# Altium integrated library Texas Instruments Power Management PWM Controller.IntLib: 1227 symbols (part 33 of 49)
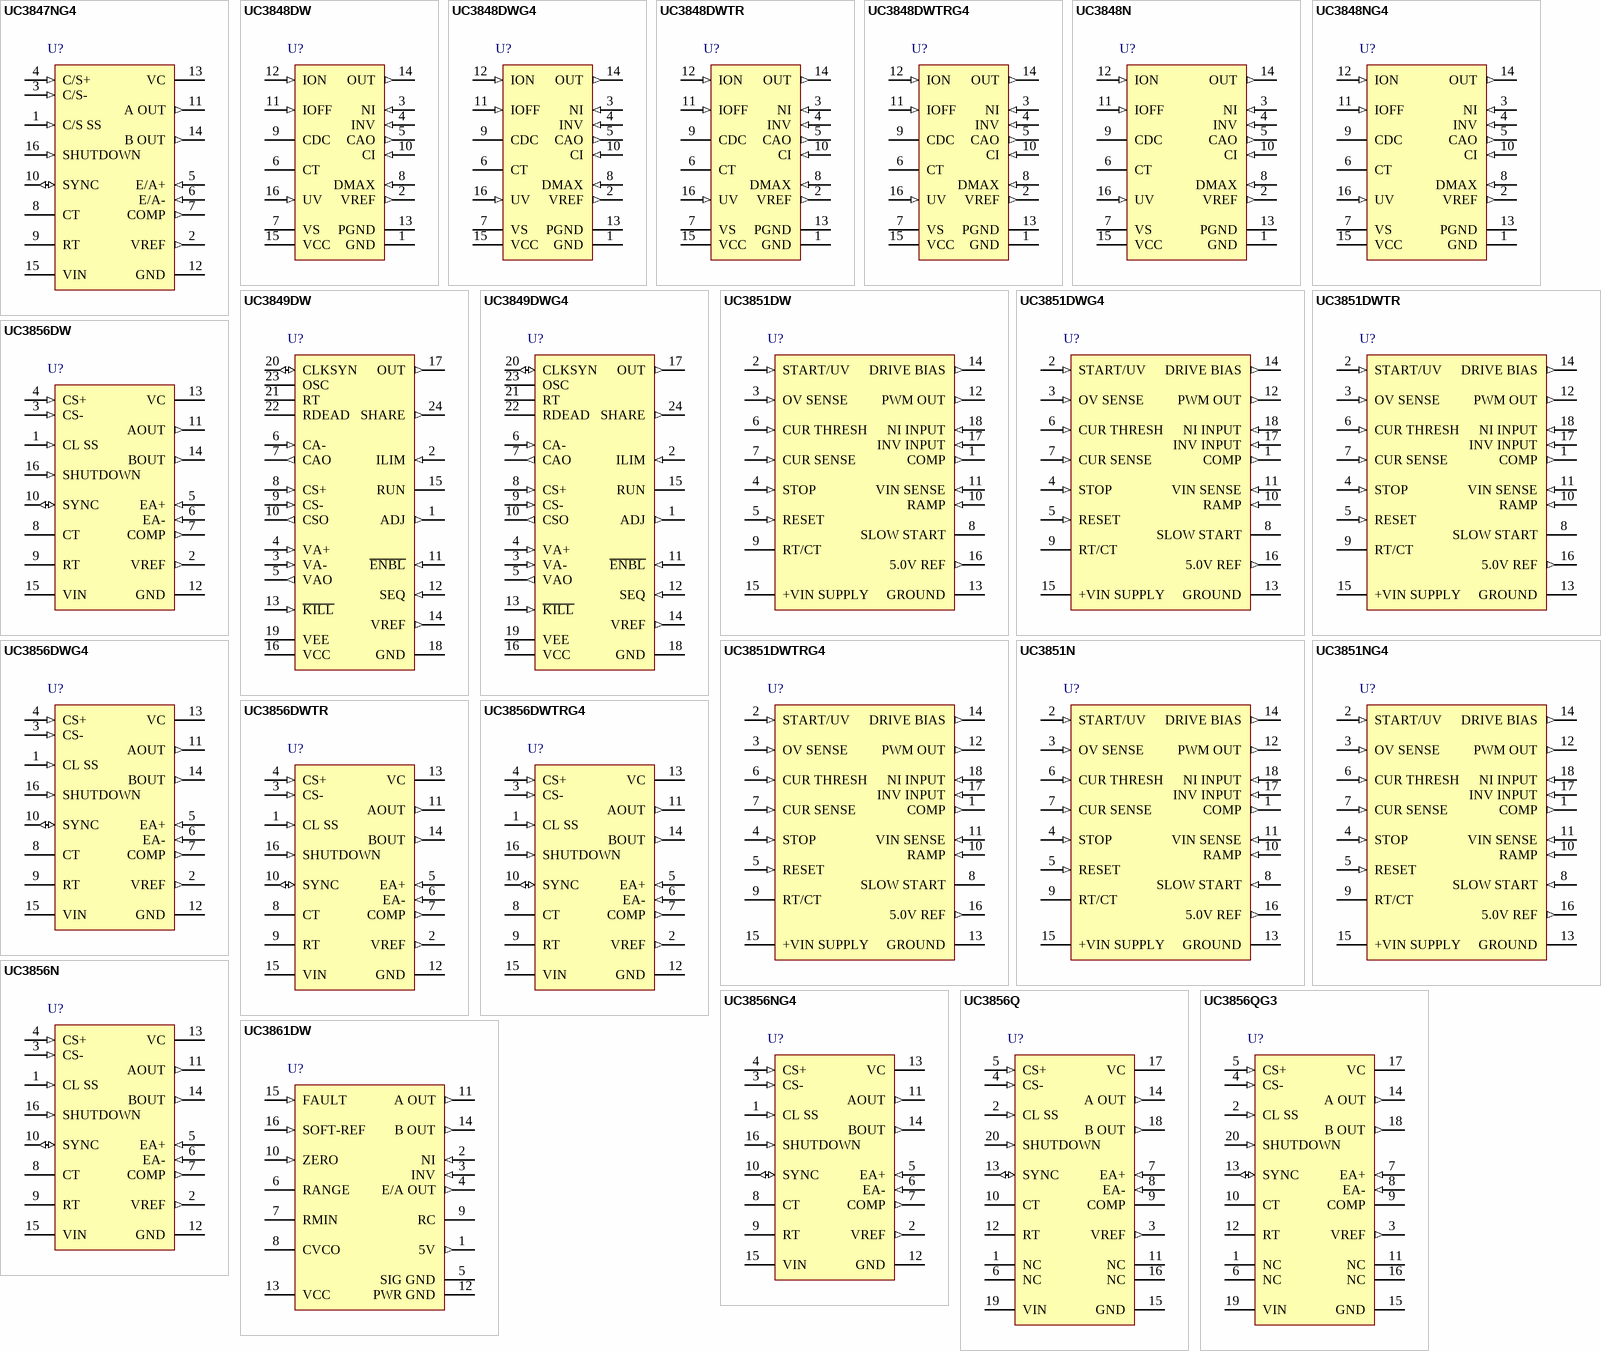
[diagram p75: symbols UC3847NG4 to UC3861DW]

## UC3861DW
designator U?
Resonant-Mode Power Supply Controller, 50 % Duty Cycle, 0 to +70 degC, 16-pin SOIC (DW), Green (RoHS & no Sb/Br); PartNumber: UC3861DW; Manufacturer: Texas Instruments; Control Method: Voltage; Duty Cycle(Max)(%): 50; Frequency(Max)(kHz): 450; Rating: Catalog; Regulated Outputs(#): 2; SubFamily: PWM Controller; Topology: Full-Bridge, Half-Bridge, Push-Pull; UVLO Thresholds On/Off(V): 16.5/10.5; DatasheetVersion: SLUS289B; PackageVersion: revG, Jan-2011; PackageReference: DW16; PackageDescription: 16-Pin Small Outline Integrated Circuit, 10.3 x 7.5 mm, Pitch 1.27 mm Pitch; Supplier 1: Digi-Key; Supplier Part Number 1: 296-14332-5-ND; Supplier 2: Newark; Supplier Part Number 2: 77C3387; Supplier 3: Mouser; Supplier Part Number 3: 595-UC3861DW; Eco-Plan: Green (RoHS & no Sb/Br); Mounting Technology: Surface Mount; Code_JEDEC: MS-013-AA; ComponentLink1Description: Datasheet; ComponentLink1URL: http://www.ti.com/general/docs/lit/getliterature.tsp?genericPartNumber=UC3861&fileType=pdf
footprint DW16_N (SOIC, 16-Leads, Body 10.3x7.5mm, Pitch 1.27mm, IPC Medium Density)
footprint DW16_L (SOIC, 16-Leads, Body 10.3x7.5mm, Pitch 1.27mm, IPC High Density)
footprint DW16_M (SOIC, 16-Leads, Body 10.3x7.5mm, Pitch 1.27mm, IPC Low Density)
pins: 1 5V (out), 2 NI (in), 3 INV (in), 4 E/A OUT (out), 5 SIG GND (power), 6 RANGE, 7 RMIN, 8 CVCO, 9 RC, 10 ZERO (in), 11 A OUT (out), 12 PWR GND (power), 13 VCC (power), 14 B OUT (out), 15 FAULT (in), 16 SOFT-REF (in)

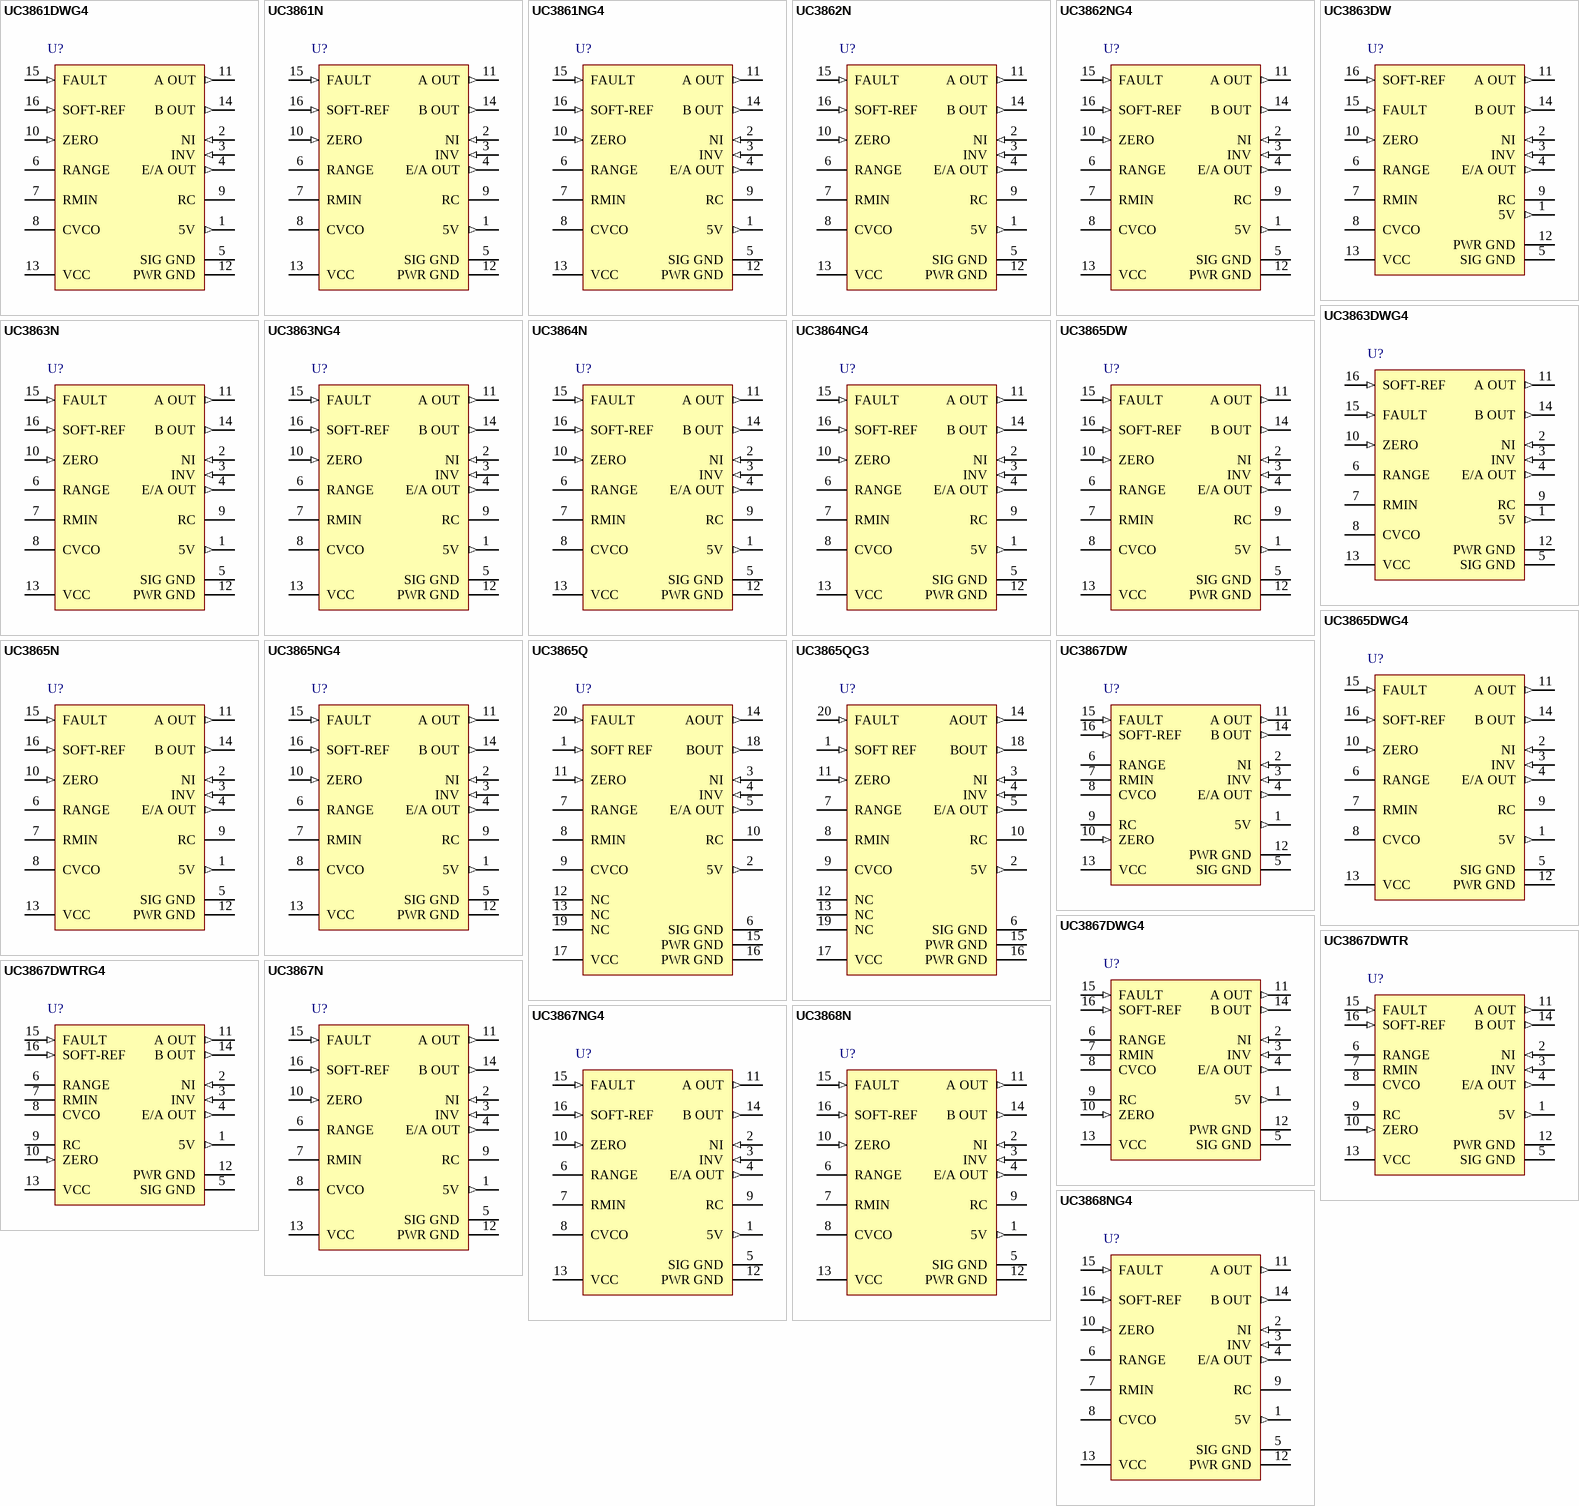
[diagram p35: symbols UC3861DWG4 to UC3868NG4]

## UC3861DWG4
designator U?
Resonant-Mode Power Supply Controller, 50 % Duty Cycle, 0 to +70 degC, 16-pin SOIC (DW), Green (RoHS & no Sb/Br); PartNumber: UC3861DWG4; Manufacturer: Texas Instruments; Control Method: Voltage; Duty Cycle(Max)(%): 50; Frequency(Max)(kHz): 450; Rating: Catalog; Regulated Outputs(#): 2; SubFamily: PWM Controller; Topology: Full-Bridge, Half-Bridge, Push-Pull; UVLO Thresholds On/Off(V): 16.5/10.5; DatasheetVersion: SLUS289B; PackageVersion: revG, Jan-2011; PackageReference: DW16; PackageDescription: 16-Pin Small Outline Integrated Circuit, 10.3 x 7.5 mm, Pitch 1.27 mm Pitch; Supplier 1: Digi-Key; Supplier Part Number 1: UC3861DWG4-ND; Supplier 2: Newark; Supplier Part Number 2: 28M7874; Supplier 3: Mouser; Supplier Part Number 3: 595-UC3861DWG4; Eco-Plan: Green (RoHS & no Sb/Br); Mounting Technology: Surface Mount; Code_JEDEC: MS-013-AA; ComponentLink1Description: Datasheet; ComponentLink1URL: http://www.ti.com/general/docs/lit/getliterature.tsp?genericPartNumber=UC3861&fileType=pdf
footprint DW16_N (SOIC, 16-Leads, Body 10.3x7.5mm, Pitch 1.27mm, IPC Medium Density)
footprint DW16_L (SOIC, 16-Leads, Body 10.3x7.5mm, Pitch 1.27mm, IPC High Density)
footprint DW16_M (SOIC, 16-Leads, Body 10.3x7.5mm, Pitch 1.27mm, IPC Low Density)
pins: 1 5V (out), 2 NI (in), 3 INV (in), 4 E/A OUT (out), 5 SIG GND (power), 6 RANGE, 7 RMIN, 8 CVCO, 9 RC, 10 ZERO (in), 11 A OUT (out), 12 PWR GND (power), 13 VCC (power), 14 B OUT (out), 15 FAULT (in), 16 SOFT-REF (in)

## UC3861N
designator U?
Resonant-Mode Power Supply Controller, 50 % Duty Cycle, 0 to +70 degC, 16-pin PDIP (N), Green (RoHS & no Sb/Br); PartNumber: UC3861N; Manufacturer: Texas Instruments; Control Method: Voltage; Duty Cycle(Max)(%): 50; Frequency(Max)(kHz): 450; Rating: Catalog; Regulated Outputs(#): 2; SubFamily: PWM Controller; Topology: Full-Bridge, Half-Bridge, Push-Pull; UVLO Thresholds On/Off(V): 16.5/10.5; DatasheetVersion: SLUS289B; PackageVersion: revE, Dec-2002; PackageReference: N16; PackageDescription: 16-Pin Plastic Dual-In-Line Package, Row Spacing 7.62 mm, Pitch 2.54 mm; Supplier 1: Digi-Key; Supplier Part Number 1: 296-11318-5-ND; Supplier 2: Newark; Supplier Part Number 2: 77C3389; Supplier 3: Mouser; Supplier Part Number 3: 595-UC3861N; Eco-Plan: Green (RoHS & no Sb/Br); Mounting Technology: Through Hole; Code_JEDEC: MS-001*; ComponentLink1Description: Datasheet; ComponentLink1URL: http://www.ti.com/general/docs/lit/getliterature.tsp?genericPartNumber=UC3861&fileType=pdf
footprint N16 (DIP, 16-Leads, Row Spacing 7.62mm, Pitch 2.54mm, Body 19.3x6.4mm)
pins: 1 5V (out), 2 NI (in), 3 INV (in), 4 E/A OUT (out), 5 SIG GND (power), 6 RANGE, 7 RMIN, 8 CVCO, 9 RC, 10 ZERO (in), 11 A OUT (out), 12 PWR GND (power), 13 VCC (power), 14 B OUT (out), 15 FAULT (in), 16 SOFT-REF (in)

## UC3861NG4
designator U?
Resonant-Mode Power Supply Controller, 50 % Duty Cycle, 0 to +70 degC, 16-pin PDIP (N), Green (RoHS & no Sb/Br); PartNumber: UC3861NG4; Manufacturer: Texas Instruments; Control Method: Voltage; Duty Cycle(Max)(%): 50; Frequency(Max)(kHz): 450; Rating: Catalog; Regulated Outputs(#): 2; SubFamily: PWM Controller; Topology: Full-Bridge, Half-Bridge, Push-Pull; UVLO Thresholds On/Off(V): 16.5/10.5; DatasheetVersion: SLUS289B; PackageVersion: revE, Dec-2002; PackageReference: N16; PackageDescription: 16-Pin Plastic Dual-In-Line Package, Row Spacing 7.62 mm, Pitch 2.54 mm; Supplier 1: Digi-Key; Supplier Part Number 1: UC3861NG4-ND; Supplier 2: Newark; Supplier Part Number 2: 54K2345; Supplier 3: Mouser; Supplier Part Number 3: 595-UC3861NG4; Eco-Plan: Green (RoHS & no Sb/Br); Mounting Technology: Through Hole; Code_JEDEC: MS-001*; ComponentLink1Description: Datasheet; ComponentLink1URL: http://www.ti.com/general/docs/lit/getliterature.tsp?genericPartNumber=UC3861&fileType=pdf
footprint N16 (DIP, 16-Leads, Row Spacing 7.62mm, Pitch 2.54mm, Body 19.3x6.4mm)
pins: 1 5V (out), 2 NI (in), 3 INV (in), 4 E/A OUT (out), 5 SIG GND (power), 6 RANGE, 7 RMIN, 8 CVCO, 9 RC, 10 ZERO (in), 11 A OUT (out), 12 PWR GND (power), 13 VCC (power), 14 B OUT (out), 15 FAULT (in), 16 SOFT-REF (in)

## UC3862N
designator U?
Resonant-Mode Power Supply Controller, 100 % Duty Cycle, 0 to +70 degC, 16-pin PDIP (N), Green (RoHS & no Sb/Br); PartNumber: UC3862N; Manufacturer: Texas Instruments; Control Method: Voltage; Duty Cycle(Max)(%): 100; Frequency(Max)(kHz): 450; Rating: Catalog; Regulated Outputs(#): 1; SubFamily: PWM Controller; Topology: Boost, Flyback, Forward; UVLO Thresholds On/Off(V): 16.5/10.5; DatasheetVersion: SLUS289B; PackageVersion: revE, Dec-2002; PackageReference: N16; PackageDescription: 16-Pin Plastic Dual-In-Line Package, Row Spacing 7.62 mm, Pitch 2.54 mm; Supplier 1: Digi-Key; Supplier Part Number 1: 296-11319-5-ND; Supplier 2: Newark; Supplier Part Number 2: 77C3392; Supplier 3: Mouser; Supplier Part Number 3: 595-UC3862N; Eco-Plan: Green (RoHS & no Sb/Br); Mounting Technology: Through Hole; Code_JEDEC: MS-001*; ComponentLink1Description: Datasheet; ComponentLink1URL: http://www.ti.com/general/docs/lit/getliterature.tsp?genericPartNumber=UC3862&fileType=pdf
footprint N16 (DIP, 16-Leads, Row Spacing 7.62mm, Pitch 2.54mm, Body 19.3x6.4mm)
pins: 1 5V (out), 2 NI (in), 3 INV (in), 4 E/A OUT (out), 5 SIG GND (power), 6 RANGE, 7 RMIN, 8 CVCO, 9 RC, 10 ZERO (in), 11 A OUT (out), 12 PWR GND (power), 13 VCC (power), 14 B OUT (out), 15 FAULT (in), 16 SOFT-REF (in)

## UC3862NG4
designator U?
Resonant-Mode Power Supply Controller, 100 % Duty Cycle, 0 to +70 degC, 16-pin PDIP (N), Green (RoHS & no Sb/Br); PartNumber: UC3862NG4; Manufacturer: Texas Instruments; Control Method: Voltage; Duty Cycle(Max)(%): 100; Frequency(Max)(kHz): 450; Rating: Catalog; Regulated Outputs(#): 1; SubFamily: PWM Controller; Topology: Boost, Flyback, Forward; UVLO Thresholds On/Off(V): 16.5/10.5; DatasheetVersion: SLUS289B; PackageVersion: revE, Dec-2002; PackageReference: N16; PackageDescription: 16-Pin Plastic Dual-In-Line Package, Row Spacing 7.62 mm, Pitch 2.54 mm; Supplier 1: Digi-Key; Supplier Part Number 1: UC3862NG4-ND; Supplier 2: Newark; Supplier Part Number 2: 54K2346; Supplier 3: Mouser; Supplier Part Number 3: 595-UC3862NG4; Eco-Plan: Green (RoHS & no Sb/Br); Mounting Technology: Through Hole; Code_JEDEC: MS-001*; ComponentLink1Description: Datasheet; ComponentLink1URL: http://www.ti.com/general/docs/lit/getliterature.tsp?genericPartNumber=UC3862&fileType=pdf
footprint N16 (DIP, 16-Leads, Row Spacing 7.62mm, Pitch 2.54mm, Body 19.3x6.4mm)
pins: 1 5V (out), 2 NI (in), 3 INV (in), 4 E/A OUT (out), 5 SIG GND (power), 6 RANGE, 7 RMIN, 8 CVCO, 9 RC, 10 ZERO (in), 11 A OUT (out), 12 PWR GND (power), 13 VCC (power), 14 B OUT (out), 15 FAULT (in), 16 SOFT-REF (in)

## UC3863DW
designator U?
Resonant-Mode Power Supply Controller with Voltage Control, 50 % Duty Cycle, 0 to +70 degC, 16-pin SOIC (DW), Green (RoHS & no Sb/Br); PartNumber: UC3863DW; Manufacturer: Texas Instruments; Duty Cycle(Max)(%): 50; Frequency(Max)(kHz): 450; Rating: Catalog; Regulated Outputs(#): 2; SubFamily: PWM Controller; Topology: Full-Bridge, Half-Bridge, Push-Pull; UVLO Thresholds On/Off(V): 8/7; DatasheetVersion: SLUS289B; PackageVersion: revG, Jan-2011; PackageReference: DW16; PackageDescription: 16-Pin Small Outline Integrated Circuit, 10.3 x 7.5 mm, Pitch 1.27 mm Pitch; Supplier 1: Digi-Key; Supplier Part Number 1: 296-34741-5-ND; Supplier 2: Newark; Supplier Part Number 2: 77C3393; Supplier 3: Mouser; Supplier Part Number 3: 595-UC3863DW; Control Method: Voltage; Eco-Plan: Green (RoHS & no Sb/Br); Mounting Technology: Surface Mount; Code_JEDEC: MS-013-AA; ComponentLink1Description: Datasheet; ComponentLink1URL: http://www.ti.com/general/docs/lit/getliterature.tsp?genericPartNumber=UC3863&fileType=pdf
footprint DW16_N (SOIC, 16-Leads, Body 10.3x7.5mm, Pitch 1.27mm, IPC Medium Density)
footprint DW16_L (SOIC, 16-Leads, Body 10.3x7.5mm, Pitch 1.27mm, IPC High Density)
footprint DW16_M (SOIC, 16-Leads, Body 10.3x7.5mm, Pitch 1.27mm, IPC Low Density)
pins: 1 5V (out), 2 NI (in), 3 INV (in), 4 E/A OUT (out), 5 SIG GND (power), 6 RANGE, 7 RMIN, 8 CVCO, 9 RC, 10 ZERO (in), 11 A OUT (out), 12 PWR GND (power), 13 VCC (power), 14 B OUT (out), 15 FAULT (in), 16 SOFT-REF (in)

## UC3863DWG4
designator U?
Resonant-Mode Power Supply Controller with Voltage Control, 50 % Duty Cycle, 0 to +70 degC, 16-pin SOIC (DW), Green (RoHS & no Sb/Br); PartNumber: UC3863DWG4; Manufacturer: Texas Instruments; Duty Cycle(Max)(%): 50; Frequency(Max)(kHz): 450; Rating: Catalog; Regulated Outputs(#): 2; SubFamily: PWM Controller; Topology: Full-Bridge, Half-Bridge, Push-Pull; UVLO Thresholds On/Off(V): 8/7; DatasheetVersion: SLUS289B; PackageVersion: revG, Jan-2011; PackageReference: DW16; PackageDescription: 16-Pin Small Outline Integrated Circuit, 10.3 x 7.5 mm, Pitch 1.27 mm Pitch; Supplier 1: Digi-Key; Supplier Part Number 1: UC3863DWG4-ND; Supplier 2: Newark; Supplier Part Number 2: 70K6028; Supplier 3: Mouser; Supplier Part Number 3: 595-UC3863DWG4; Control Method: Voltage; Eco-Plan: Green (RoHS & no Sb/Br); Mounting Technology: Surface Mount; Code_JEDEC: MS-013-AA; ComponentLink1Description: Datasheet; ComponentLink1URL: http://www.ti.com/general/docs/lit/getliterature.tsp?genericPartNumber=UC3863&fileType=pdf
footprint DW16_N (SOIC, 16-Leads, Body 10.3x7.5mm, Pitch 1.27mm, IPC Medium Density)
footprint DW16_L (SOIC, 16-Leads, Body 10.3x7.5mm, Pitch 1.27mm, IPC High Density)
footprint DW16_M (SOIC, 16-Leads, Body 10.3x7.5mm, Pitch 1.27mm, IPC Low Density)
pins: 1 5V (out), 2 NI (in), 3 INV (in), 4 E/A OUT (out), 5 SIG GND (power), 6 RANGE, 7 RMIN, 8 CVCO, 9 RC, 10 ZERO (in), 11 A OUT (out), 12 PWR GND (power), 13 VCC (power), 14 B OUT (out), 15 FAULT (in), 16 SOFT-REF (in)

## UC3863N
designator U?
Resonant-Mode Power Supply Controller with Voltage Control, 50 % Duty Cycle, 0 to +70 degC, 16-pin PDIP (N), Green (RoHS & no Sb/Br); PartNumber: UC3863N; Manufacturer: Texas Instruments; Duty Cycle(Max)(%): 50; Frequency(Max)(kHz): 450; Rating: Catalog; Regulated Outputs(#): 2; SubFamily: PWM Controller; Topology: Full-Bridge, Half-Bridge, Push-Pull; UVLO Thresholds On/Off(V): 8/7; DatasheetVersion: SLUS289B; PackageVersion: revE, Dec-2002; PackageReference: N16; PackageDescription: 16-Pin Plastic Dual-In-Line Package, Row Spacing 7.62 mm, Pitch 2.54 mm; Supplier 1: Digi-Key; Supplier Part Number 1: 296-11320-5-ND; Supplier 2: Newark; Supplier Part Number 2: 77C3395; Supplier 3: Mouser; Supplier Part Number 3: 595-UC3863N; Control Method: Voltage; Eco-Plan: Green (RoHS & no Sb/Br); Mounting Technology: Through Hole; Code_JEDEC: MS-001*; ComponentLink1Description: Datasheet; ComponentLink1URL: http://www.ti.com/general/docs/lit/getliterature.tsp?genericPartNumber=UC3863&fileType=pdf
footprint N16 (DIP, 16-Leads, Row Spacing 7.62mm, Pitch 2.54mm, Body 19.3x6.4mm)
pins: 1 5V (out), 2 NI (in), 3 INV (in), 4 E/A OUT (out), 5 SIG GND (power), 6 RANGE, 7 RMIN, 8 CVCO, 9 RC, 10 ZERO (in), 11 A OUT (out), 12 PWR GND (power), 13 VCC (power), 14 B OUT (out), 15 FAULT (in), 16 SOFT-REF (in)

## UC3863NG4
designator U?
Resonant-Mode Power Supply Controller with Voltage Control, 50 % Duty Cycle, 0 to +70 degC, 16-pin PDIP (N), Green (RoHS & no Sb/Br); PartNumber: UC3863NG4; Manufacturer: Texas Instruments; Duty Cycle(Max)(%): 50; Frequency(Max)(kHz): 450; Rating: Catalog; Regulated Outputs(#): 2; SubFamily: PWM Controller; Topology: Full-Bridge, Half-Bridge, Push-Pull; UVLO Thresholds On/Off(V): 8/7; DatasheetVersion: SLUS289B; PackageVersion: revE, Dec-2002; PackageReference: N16; PackageDescription: 16-Pin Plastic Dual-In-Line Package, Row Spacing 7.62 mm, Pitch 2.54 mm; Supplier 1: Digi-Key; Supplier Part Number 1: UC3863NG4-ND; Supplier 2: Newark; Supplier Part Number 2: 70K6029; Supplier 3: Mouser; Supplier Part Number 3: 595-UC3863NG4; Control Method: Voltage; Eco-Plan: Green (RoHS & no Sb/Br); Mounting Technology: Through Hole; Code_JEDEC: MS-001*; ComponentLink1Description: Datasheet; ComponentLink1URL: http://www.ti.com/general/docs/lit/getliterature.tsp?genericPartNumber=UC3863&fileType=pdf
footprint N16 (DIP, 16-Leads, Row Spacing 7.62mm, Pitch 2.54mm, Body 19.3x6.4mm)
pins: 1 5V (out), 2 NI (in), 3 INV (in), 4 E/A OUT (out), 5 SIG GND (power), 6 RANGE, 7 RMIN, 8 CVCO, 9 RC, 10 ZERO (in), 11 A OUT (out), 12 PWR GND (power), 13 VCC (power), 14 B OUT (out), 15 FAULT (in), 16 SOFT-REF (in)

## UC3864N
designator U?
Resonant-Mode Power Supply Controller with Voltage Control, 1 % Duty Cycle, 0 to +70 degC, 16-pin PDIP (N), Green (RoHS & no Sb/Br); PartNumber: UC3864N; Manufacturer: Texas Instruments; Duty Cycle(Max)(%): 1; Frequency(Max)(kHz): 450; Rating: Catalog; SubFamily: PWM Controller; Topology: Boost, Flyback, Forward; UVLO Thresholds On/Off(V): 8/7; DatasheetVersion: SLUS289B; PackageVersion: revE, Dec-2002; PackageReference: N16; PackageDescription: 16-Pin Plastic Dual-In-Line Package, Row Spacing 7.62 mm, Pitch 2.54 mm; Supplier 1: Digi-Key; Supplier Part Number 1: 296-11322-5-ND; Supplier 2: Newark; Supplier Part Number 2: 77C3398; Supplier 3: Mouser; Supplier Part Number 3: 595-UC3864N; Control Method: Voltage; Eco-Plan: Green (RoHS & no Sb/Br); Regulated Outputs(#): 1; Mounting Technology: Through Hole; Code_JEDEC: MS-001*; ComponentLink1Description: Datasheet; ComponentLink1URL: http://www.ti.com/general/docs/lit/getliterature.tsp?genericPartNumber=UC3864&fileType=pdf
footprint N16 (DIP, 16-Leads, Row Spacing 7.62mm, Pitch 2.54mm, Body 19.3x6.4mm)
pins: 1 5V (out), 2 NI (in), 3 INV (in), 4 E/A OUT (out), 5 SIG GND (power), 6 RANGE, 7 RMIN, 8 CVCO, 9 RC, 10 ZERO (in), 11 A OUT (out), 12 PWR GND (power), 13 VCC (power), 14 B OUT (out), 15 FAULT (in), 16 SOFT-REF (in)

## UC3864NG4
designator U?
Resonant-Mode Power Supply Controller with Voltage Control, 1 % Duty Cycle, 0 to +70 degC, 16-pin PDIP (N), Green (RoHS & no Sb/Br); PartNumber: UC3864NG4; Manufacturer: Texas Instruments; Duty Cycle(Max)(%): 1; Frequency(Max)(kHz): 450; Rating: Catalog; SubFamily: PWM Controller; Topology: Boost, Flyback, Forward; UVLO Thresholds On/Off(V): 8/7; DatasheetVersion: SLUS289B; PackageVersion: revE, Dec-2002; PackageReference: N16; PackageDescription: 16-Pin Plastic Dual-In-Line Package, Row Spacing 7.62 mm, Pitch 2.54 mm; Supplier 1: Digi-Key; Supplier Part Number 1: UC3864NG4-ND; Supplier 2: Newark; Supplier Part Number 2: 54K2347; Supplier 3: Mouser; Supplier Part Number 3: 595-UC3864NG4; Control Method: Voltage; Eco-Plan: Green (RoHS & no Sb/Br); Regulated Outputs(#): 1; Mounting Technology: Through Hole; Code_JEDEC: MS-001*; ComponentLink1Description: Datasheet; ComponentLink1URL: http://www.ti.com/general/docs/lit/getliterature.tsp?genericPartNumber=UC3864&fileType=pdf
footprint N16 (DIP, 16-Leads, Row Spacing 7.62mm, Pitch 2.54mm, Body 19.3x6.4mm)
pins: 1 5V (out), 2 NI (in), 3 INV (in), 4 E/A OUT (out), 5 SIG GND (power), 6 RANGE, 7 RMIN, 8 CVCO, 9 RC, 10 ZERO (in), 11 A OUT (out), 12 PWR GND (power), 13 VCC (power), 14 B OUT (out), 15 FAULT (in), 16 SOFT-REF (in)

## UC3865DW
designator U?
Resonant-Mode Power Supply Controller with Voltage Control, 50 % Duty Cycle, 0 to +70 degC, 16-pin SOIC (DW), Green (RoHS & no Sb/Br); PartNumber: UC3865DW; Manufacturer: Texas Instruments; Duty Cycle(Max)(%): 50; Frequency(Max)(kHz): 450; Rating: Catalog; Regulated Outputs(#): 2; SubFamily: PWM Controller; Topology: Full-Bridge, Half-Bridge, Push-Pull; UVLO Thresholds On/Off(V): 16.5/10.5; DatasheetVersion: SLUS289B; PackageVersion: revG, Jan-2011; PackageReference: DW16; PackageDescription: 16-Pin Small Outline Integrated Circuit, 10.3 x 7.5 mm, Pitch 1.27 mm Pitch; Supplier 1: Digi-Key; Supplier Part Number 1: UC3865DW-ND; Supplier 2: Newark; Supplier Part Number 2: 77C3399; Supplier 3: Mouser; Supplier Part Number 3: 595-UC3865DW; Control Method: Voltage; Eco-Plan: Green (RoHS & no Sb/Br); Mounting Technology: Surface Mount; Code_JEDEC: MS-013-AA; ComponentLink1Description: Datasheet; ComponentLink1URL: http://www.ti.com/general/docs/lit/getliterature.tsp?genericPartNumber=UC3865&fileType=pdf
footprint DW16_N (SOIC, 16-Leads, Body 10.3x7.5mm, Pitch 1.27mm, IPC Medium Density)
footprint DW16_L (SOIC, 16-Leads, Body 10.3x7.5mm, Pitch 1.27mm, IPC High Density)
footprint DW16_M (SOIC, 16-Leads, Body 10.3x7.5mm, Pitch 1.27mm, IPC Low Density)
pins: 1 5V (out), 2 NI (in), 3 INV (in), 4 E/A OUT (out), 5 SIG GND (power), 6 RANGE, 7 RMIN, 8 CVCO, 9 RC, 10 ZERO (in), 11 A OUT (out), 12 PWR GND (power), 13 VCC (power), 14 B OUT (out), 15 FAULT (in), 16 SOFT-REF (in)

## UC3865DWG4
designator U?
Resonant-Mode Power Supply Controller with Voltage Control, 50 % Duty Cycle, 0 to +70 degC, 16-pin SOIC (DW), Green (RoHS & no Sb/Br); PartNumber: UC3865DWG4; Manufacturer: Texas Instruments; Duty Cycle(Max)(%): 50; Frequency(Max)(kHz): 450; Rating: Catalog; Regulated Outputs(#): 2; SubFamily: PWM Controller; Topology: Full-Bridge, Half-Bridge, Push-Pull; UVLO Thresholds On/Off(V): 16.5/10.5; DatasheetVersion: SLUS289B; PackageVersion: revG, Jan-2011; PackageReference: DW16; PackageDescription: 16-Pin Small Outline Integrated Circuit, 10.3 x 7.5 mm, Pitch 1.27 mm Pitch; Supplier 1: Digi-Key; Supplier Part Number 1: UC3865DWG4-ND; Supplier 2: Newark; Supplier Part Number 2: 66K4931; Supplier 3: Mouser; Supplier Part Number 3: 595-UC3865DWG4; Control Method: Voltage; Eco-Plan: Green (RoHS & no Sb/Br); Mounting Technology: Surface Mount; Code_JEDEC: MS-013-AA; ComponentLink1Description: Datasheet; ComponentLink1URL: http://www.ti.com/general/docs/lit/getliterature.tsp?genericPartNumber=UC3865&fileType=pdf
footprint DW16_N (SOIC, 16-Leads, Body 10.3x7.5mm, Pitch 1.27mm, IPC Medium Density)
footprint DW16_L (SOIC, 16-Leads, Body 10.3x7.5mm, Pitch 1.27mm, IPC High Density)
footprint DW16_M (SOIC, 16-Leads, Body 10.3x7.5mm, Pitch 1.27mm, IPC Low Density)
pins: 1 5V (out), 2 NI (in), 3 INV (in), 4 E/A OUT (out), 5 SIG GND (power), 6 RANGE, 7 RMIN, 8 CVCO, 9 RC, 10 ZERO (in), 11 A OUT (out), 12 PWR GND (power), 13 VCC (power), 14 B OUT (out), 15 FAULT (in), 16 SOFT-REF (in)

## UC3865N
designator U?
Resonant-Mode Power Supply Controller with Voltage Control, 50 % Duty Cycle, 0 to +70 degC, 16-pin PDIP (N), Green (RoHS & no Sb/Br); PartNumber: UC3865N; Manufacturer: Texas Instruments; Duty Cycle(Max)(%): 50; Frequency(Max)(kHz): 450; Rating: Catalog; Regulated Outputs(#): 2; SubFamily: PWM Controller; Topology: Full-Bridge, Half-Bridge, Push-Pull; UVLO Thresholds On/Off(V): 16.5/10.5; DatasheetVersion: SLUS289B; PackageVersion: revE, Dec-2002; PackageReference: N16; PackageDescription: 16-Pin Plastic Dual-In-Line Package, Row Spacing 7.62 mm, Pitch 2.54 mm; Supplier 1: Digi-Key; Supplier Part Number 1: 296-11323-5-ND; Supplier 2: Farnell; Supplier Part Number 2: 1755661; Supplier 3: Newark; Supplier Part Number 3: 34R9293; Supplier 4: Newark; Supplier Part Number 4: 77C3401; Supplier 5: Mouser; Supplier Part Number 5: 595-UC3865N; Control Method: Voltage; Eco-Plan: Green (RoHS & no Sb/Br); Mounting Technology: Through Hole; Code_JEDEC: MS-001*; ComponentLink1Description: Datasheet; ComponentLink1URL: http://www.ti.com/general/docs/lit/getliterature.tsp?genericPartNumber=UC3865&fileType=pdf
footprint N16 (DIP, 16-Leads, Row Spacing 7.62mm, Pitch 2.54mm, Body 19.3x6.4mm)
pins: 1 5V (out), 2 NI (in), 3 INV (in), 4 E/A OUT (out), 5 SIG GND (power), 6 RANGE, 7 RMIN, 8 CVCO, 9 RC, 10 ZERO (in), 11 A OUT (out), 12 PWR GND (power), 13 VCC (power), 14 B OUT (out), 15 FAULT (in), 16 SOFT-REF (in)

## UC3865NG4
designator U?
Resonant-Mode Power Supply Controller with Voltage Control, 50 % Duty Cycle, 0 to +70 degC, 16-pin PDIP (N), Green (RoHS & no Sb/Br); PartNumber: UC3865NG4; Manufacturer: Texas Instruments; Duty Cycle(Max)(%): 50; Frequency(Max)(kHz): 450; Rating: Catalog; Regulated Outputs(#): 2; SubFamily: PWM Controller; Topology: Full-Bridge, Half-Bridge, Push-Pull; UVLO Thresholds On/Off(V): 16.5/10.5; DatasheetVersion: SLUS289B; PackageVersion: revE, Dec-2002; PackageReference: N16; PackageDescription: 16-Pin Plastic Dual-In-Line Package, Row Spacing 7.62 mm, Pitch 2.54 mm; Supplier 1: Digi-Key; Supplier Part Number 1: UC3865NG4-ND; Supplier 2: Newark; Supplier Part Number 2: 54K2348; Supplier 3: Mouser; Supplier Part Number 3: 595-UC3865NG4; Control Method: Voltage; Eco-Plan: Green (RoHS & no Sb/Br); Mounting Technology: Through Hole; Code_JEDEC: MS-001*; ComponentLink1Description: Datasheet; ComponentLink1URL: http://www.ti.com/general/docs/lit/getliterature.tsp?genericPartNumber=UC3865&fileType=pdf
footprint N16 (DIP, 16-Leads, Row Spacing 7.62mm, Pitch 2.54mm, Body 19.3x6.4mm)
pins: 1 5V (out), 2 NI (in), 3 INV (in), 4 E/A OUT (out), 5 SIG GND (power), 6 RANGE, 7 RMIN, 8 CVCO, 9 RC, 10 ZERO (in), 11 A OUT (out), 12 PWR GND (power), 13 VCC (power), 14 B OUT (out), 15 FAULT (in), 16 SOFT-REF (in)

## UC3865Q
designator U?
Resonant-Mode Power Supply Controller with Voltage Control, 50 % Duty Cycle, 0 to +70 degC, 20-pin PLCC (FN), Green (RoHS & no Sb/Br); PartNumber: UC3865Q; Manufacturer: Texas Instruments; Duty Cycle(Max)(%): 50; Frequency(Max)(kHz): 450; Rating: Catalog; Regulated Outputs(#): 2; SubFamily: PWM Controller; Topology: Full-Bridge, Half-Bridge, Push-Pull; UVLO Thresholds On/Off(V): 16.5/10.5; DatasheetVersion: SLUS289B; PackageVersion: revB, Mar-1995; PackageReference: FN20; PackageDescription: 20-Pin Plastic Leaded Chip Carrier, 1.27 mm Pitch; Supplier 1: Digi-Key; Supplier Part Number 1: UC3865Q-ND; Supplier 2: Newark; Supplier Part Number 2: 46M3183; Supplier 3: Mouser; Supplier Part Number 3: 595-UC3865Q; Control Method: Voltage; Eco-Plan: Green (RoHS & no Sb/Br); Mounting Technology: Surface Mount; Code_JEDEC: MS-018; ComponentLink1Description: Datasheet; ComponentLink1URL: http://www.ti.com/general/docs/lit/getliterature.tsp?genericPartNumber=UC3865&fileType=pdf
footprint FN20_N (Leaded Chip Carrier, 20-Leads, Body 9x9mm, Pitch 1.27mm, IPC Medium Density)
footprint FN20_L (Leaded Chip Carrier, 20-Leads, Body 9x9mm, Pitch 1.27mm, IPC High Density)
footprint FN20_M (Leaded Chip Carrier, 20-Leads, Body 9x9mm, Pitch 1.27mm, IPC Low Density)
pins: 1 SOFT REF (in), 2 5V (out), 3 NI (in), 4 INV (in), 5 E/A OUT (out), 6 SIG GND (power), 7 RANGE, 8 RMIN, 9 CVCO, 10 RC, 11 ZERO (in), 12 NC, 13 NC, 14 AOUT (out), 15 PWR GND (power), 16 PWR GND (power), 17 VCC (power), 18 BOUT (out), 19 NC, 20 FAULT (in)

## UC3865QG3
designator U?
Resonant-Mode Power Supply Controller with Voltage Control, 50 % Duty Cycle, 0 to +70 degC, 20-pin PLCC (FN), Green (RoHS & no Sb/Br); PartNumber: UC3865QG3; Manufacturer: Texas Instruments; Duty Cycle(Max)(%): 50; Frequency(Max)(kHz): 450; Rating: Catalog; Regulated Outputs(#): 2; SubFamily: PWM Controller; Topology: Full-Bridge, Half-Bridge, Push-Pull; UVLO Thresholds On/Off(V): 16.5/10.5; DatasheetVersion: SLUS289B; PackageVersion: revB, Mar-1995; PackageReference: FN20; PackageDescription: 20-Pin Plastic Leaded Chip Carrier, 1.27 mm Pitch; Supplier 1: Digi-Key; Supplier Part Number 1: UC3865QG3-ND; Supplier 2: Newark; Supplier Part Number 2: 52M6464; Supplier 3: Mouser; Supplier Part Number 3: 595-UC3865QG3; Control Method: Voltage; Eco-Plan: Green (RoHS & no Sb/Br); Mounting Technology: Surface Mount; Code_JEDEC: MS-018; ComponentLink1Description: Datasheet; ComponentLink1URL: http://www.ti.com/general/docs/lit/getliterature.tsp?genericPartNumber=UC3865&fileType=pdf
footprint FN20_N (Leaded Chip Carrier, 20-Leads, Body 9x9mm, Pitch 1.27mm, IPC Medium Density)
footprint FN20_L (Leaded Chip Carrier, 20-Leads, Body 9x9mm, Pitch 1.27mm, IPC High Density)
footprint FN20_M (Leaded Chip Carrier, 20-Leads, Body 9x9mm, Pitch 1.27mm, IPC Low Density)
pins: 1 SOFT REF (in), 2 5V (out), 3 NI (in), 4 INV (in), 5 E/A OUT (out), 6 SIG GND (power), 7 RANGE, 8 RMIN, 9 CVCO, 10 RC, 11 ZERO (in), 12 NC, 13 NC, 14 AOUT (out), 15 PWR GND (power), 16 PWR GND (power), 17 VCC (power), 18 BOUT (out), 19 NC, 20 FAULT (in)

## UC3867DW
designator U?
Resonant-Mode Power Supply Controller with Voltage Control, 50 % Duty Cycle, 0 to +70 degC, 16-pin SOIC (DW), Green (RoHS & no Sb/Br); PartNumber: UC3867DW; Manufacturer: Texas Instruments; Duty Cycle(Max)(%): 50; Frequency(Max)(kHz): 450; Rating: Catalog; Regulated Outputs(#): 2; SubFamily: PWM Controller; Topology: Full-Bridge, Half-Bridge, Push-Pull; UVLO Thresholds On/Off(V): 8/7; DatasheetVersion: SLUS289B; PackageVersion: revG, Jan-2011; PackageReference: DW16; PackageDescription: 16-Pin Small Outline Integrated Circuit, 10.3 x 7.5 mm, Pitch 1.27 mm Pitch; Supplier 1: Digi-Key; Supplier Part Number 1: 296-34742-5-ND; Supplier 2: Newark; Supplier Part Number 2: 77C3405; Supplier 3: Mouser; Supplier Part Number 3: 595-UC3867DW; Control Method: Voltage; Eco-Plan: Green (RoHS & no Sb/Br); Mounting Technology: Surface Mount; Code_JEDEC: MS-013-AA; ComponentLink1Description: Datasheet; ComponentLink1URL: http://www.ti.com/general/docs/lit/getliterature.tsp?genericPartNumber=UC3867&fileType=pdf
footprint DW16_N (SOIC, 16-Leads, Body 10.3x7.5mm, Pitch 1.27mm, IPC Medium Density)
footprint DW16_L (SOIC, 16-Leads, Body 10.3x7.5mm, Pitch 1.27mm, IPC High Density)
footprint DW16_M (SOIC, 16-Leads, Body 10.3x7.5mm, Pitch 1.27mm, IPC Low Density)
pins: 1 5V (out), 2 NI (in), 3 INV (in), 4 E/A OUT (out), 5 SIG GND (power), 6 RANGE, 7 RMIN, 8 CVCO, 9 RC, 10 ZERO (in), 11 A OUT (out), 12 PWR GND (power), 13 VCC (power), 14 B OUT (out), 15 FAULT (in), 16 SOFT-REF (in)

## UC3867DWG4
designator U?
Resonant-Mode Power Supply Controller with Voltage Control, 50 % Duty Cycle, 0 to +70 degC, 16-pin SOIC (DW), Green (RoHS & no Sb/Br); PartNumber: UC3867DWG4; Manufacturer: Texas Instruments; Duty Cycle(Max)(%): 50; Frequency(Max)(kHz): 450; Rating: Catalog; Regulated Outputs(#): 2; SubFamily: PWM Controller; Topology: Full-Bridge, Half-Bridge, Push-Pull; UVLO Thresholds On/Off(V): 8/7; DatasheetVersion: SLUS289B; PackageVersion: revG, Jan-2011; PackageReference: DW16; PackageDescription: 16-Pin Small Outline Integrated Circuit, 10.3 x 7.5 mm, Pitch 1.27 mm Pitch; Supplier 1: Digi-Key; Supplier Part Number 1: UC3867DWG4-ND; Supplier 2: Newark; Supplier Part Number 2: 66K4932; Supplier 3: Mouser; Supplier Part Number 3: 595-UC3867DWG4; Control Method: Voltage; Eco-Plan: Green (RoHS & no Sb/Br); Mounting Technology: Surface Mount; Code_JEDEC: MS-013-AA; ComponentLink1Description: Datasheet; ComponentLink1URL: http://www.ti.com/general/docs/lit/getliterature.tsp?genericPartNumber=UC3867&fileType=pdf
footprint DW16_N (SOIC, 16-Leads, Body 10.3x7.5mm, Pitch 1.27mm, IPC Medium Density)
footprint DW16_L (SOIC, 16-Leads, Body 10.3x7.5mm, Pitch 1.27mm, IPC High Density)
footprint DW16_M (SOIC, 16-Leads, Body 10.3x7.5mm, Pitch 1.27mm, IPC Low Density)
pins: 1 5V (out), 2 NI (in), 3 INV (in), 4 E/A OUT (out), 5 SIG GND (power), 6 RANGE, 7 RMIN, 8 CVCO, 9 RC, 10 ZERO (in), 11 A OUT (out), 12 PWR GND (power), 13 VCC (power), 14 B OUT (out), 15 FAULT (in), 16 SOFT-REF (in)

## UC3867DWTR
designator U?
Resonant-Mode Power Supply Controller with Voltage Control, 50 % Duty Cycle, 0 to +70 degC, 16-pin SOIC (DW), Green (RoHS & no Sb/Br); PartNumber: UC3867DWTR; Manufacturer: Texas Instruments; Duty Cycle(Max)(%): 50; Frequency(Max)(kHz): 450; Rating: Catalog; Regulated Outputs(#): 2; SubFamily: PWM Controller; Topology: Full-Bridge, Half-Bridge, Push-Pull; UVLO Thresholds On/Off(V): 8/7; DatasheetVersion: SLUS289B; PackageVersion: revG, Jan-2011; PackageReference: DW16; PackageDescription: 16-Pin Small Outline Integrated Circuit, 10.3 x 7.5 mm, Pitch 1.27 mm Pitch; Supplier 1: Digi-Key; Supplier Part Number 1: UC3867DWTR-ND; Supplier 2: Newark; Supplier Part Number 2: 77C3406; Supplier 3: Mouser; Supplier Part Number 3: 595-UC3867DWTR; Control Method: Voltage; Eco-Plan: Green (RoHS & no Sb/Br); Mounting Technology: Surface Mount; Code_JEDEC: MS-013-AA; ComponentLink1Description: Datasheet; ComponentLink1URL: http://www.ti.com/general/docs/lit/getliterature.tsp?genericPartNumber=UC3867&fileType=pdf
footprint DW16_N (SOIC, 16-Leads, Body 10.3x7.5mm, Pitch 1.27mm, IPC Medium Density)
footprint DW16_L (SOIC, 16-Leads, Body 10.3x7.5mm, Pitch 1.27mm, IPC High Density)
footprint DW16_M (SOIC, 16-Leads, Body 10.3x7.5mm, Pitch 1.27mm, IPC Low Density)
pins: 1 5V (out), 2 NI (in), 3 INV (in), 4 E/A OUT (out), 5 SIG GND (power), 6 RANGE, 7 RMIN, 8 CVCO, 9 RC, 10 ZERO (in), 11 A OUT (out), 12 PWR GND (power), 13 VCC (power), 14 B OUT (out), 15 FAULT (in), 16 SOFT-REF (in)

## UC3867DWTRG4
designator U?
Resonant-Mode Power Supply Controller with Voltage Control, 50 % Duty Cycle, 0 to +70 degC, 16-pin SOIC (DW), Green (RoHS & no Sb/Br); PartNumber: UC3867DWTRG4; Manufacturer: Texas Instruments; Duty Cycle(Max)(%): 50; Frequency(Max)(kHz): 450; Rating: Catalog; Regulated Outputs(#): 2; SubFamily: PWM Controller; Topology: Full-Bridge, Half-Bridge, Push-Pull; UVLO Thresholds On/Off(V): 8/7; DatasheetVersion: SLUS289B; PackageVersion: revG, Jan-2011; PackageReference: DW16; PackageDescription: 16-Pin Small Outline Integrated Circuit, 10.3 x 7.5 mm, Pitch 1.27 mm Pitch; Supplier 1: Digi-Key; Supplier Part Number 1: UC3867DWTRG4-ND; Supplier 2: Newark; Supplier Part Number 2: 63K6758; Supplier 3: Mouser; Supplier Part Number 3: 595-UC3867DWTRG4; Control Method: Voltage; Eco-Plan: Green (RoHS & no Sb/Br); Mounting Technology: Surface Mount; Code_JEDEC: MS-013-AA; ComponentLink1Description: Datasheet; ComponentLink1URL: http://www.ti.com/general/docs/lit/getliterature.tsp?genericPartNumber=UC3867&fileType=pdf
footprint DW16_N (SOIC, 16-Leads, Body 10.3x7.5mm, Pitch 1.27mm, IPC Medium Density)
footprint DW16_L (SOIC, 16-Leads, Body 10.3x7.5mm, Pitch 1.27mm, IPC High Density)
footprint DW16_M (SOIC, 16-Leads, Body 10.3x7.5mm, Pitch 1.27mm, IPC Low Density)
pins: 1 5V (out), 2 NI (in), 3 INV (in), 4 E/A OUT (out), 5 SIG GND (power), 6 RANGE, 7 RMIN, 8 CVCO, 9 RC, 10 ZERO (in), 11 A OUT (out), 12 PWR GND (power), 13 VCC (power), 14 B OUT (out), 15 FAULT (in), 16 SOFT-REF (in)

## UC3867N
designator U?
Resonant-Mode Power Supply Controller with Voltage Control, 50 % Duty Cycle, 0 to +70 degC, 16-pin PDIP (N), Green (RoHS & no Sb/Br); PartNumber: UC3867N; Manufacturer: Texas Instruments; Duty Cycle(Max)(%): 50; Frequency(Max)(kHz): 450; Rating: Catalog; Regulated Outputs(#): 2; SubFamily: PWM Controller; Topology: Full-Bridge, Half-Bridge, Push-Pull; UVLO Thresholds On/Off(V): 8/7; DatasheetVersion: SLUS289B; PackageVersion: revE, Dec-2002; PackageReference: N16; PackageDescription: 16-Pin Plastic Dual-In-Line Package, Row Spacing 7.62 mm, Pitch 2.54 mm; Supplier 1: Digi-Key; Supplier Part Number 1: 296-11324-5-ND; Supplier 2: Newark; Supplier Part Number 2: 77C3407; Supplier 3: Mouser; Supplier Part Number 3: 595-UC3867N; Control Method: Voltage; Eco-Plan: Green (RoHS & no Sb/Br); Mounting Technology: Through Hole; Code_JEDEC: MS-001*; ComponentLink1Description: Datasheet; ComponentLink1URL: http://www.ti.com/general/docs/lit/getliterature.tsp?genericPartNumber=UC3867&fileType=pdf
footprint N16 (DIP, 16-Leads, Row Spacing 7.62mm, Pitch 2.54mm, Body 19.3x6.4mm)
pins: 1 5V (out), 2 NI (in), 3 INV (in), 4 E/A OUT (out), 5 SIG GND (power), 6 RANGE, 7 RMIN, 8 CVCO, 9 RC, 10 ZERO (in), 11 A OUT (out), 12 PWR GND (power), 13 VCC (power), 14 B OUT (out), 15 FAULT (in), 16 SOFT-REF (in)

## UC3867NG4
designator U?
Resonant-Mode Power Supply Controller with Voltage Control, 50 % Duty Cycle, 0 to +70 degC, 16-pin PDIP (N), Green (RoHS & no Sb/Br); PartNumber: UC3867NG4; Manufacturer: Texas Instruments; Duty Cycle(Max)(%): 50; Frequency(Max)(kHz): 450; Rating: Catalog; Regulated Outputs(#): 2; SubFamily: PWM Controller; Topology: Full-Bridge, Half-Bridge, Push-Pull; UVLO Thresholds On/Off(V): 8/7; DatasheetVersion: SLUS289B; PackageVersion: revE, Dec-2002; PackageReference: N16; PackageDescription: 16-Pin Plastic Dual-In-Line Package, Row Spacing 7.62 mm, Pitch 2.54 mm; Supplier 1: Digi-Key; Supplier Part Number 1: UC3867NG4-ND; Supplier 2: Newark; Supplier Part Number 2: 81K4527; Supplier 3: Mouser; Supplier Part Number 3: 595-UC3867NG4; Control Method: Voltage; Eco-Plan: Green (RoHS & no Sb/Br); Mounting Technology: Through Hole; Code_JEDEC: MS-001*; ComponentLink1Description: Datasheet; ComponentLink1URL: http://www.ti.com/general/docs/lit/getliterature.tsp?genericPartNumber=UC3867&fileType=pdf
footprint N16 (DIP, 16-Leads, Row Spacing 7.62mm, Pitch 2.54mm, Body 19.3x6.4mm)
pins: 1 5V (out), 2 NI (in), 3 INV (in), 4 E/A OUT (out), 5 SIG GND (power), 6 RANGE, 7 RMIN, 8 CVCO, 9 RC, 10 ZERO (in), 11 A OUT (out), 12 PWR GND (power), 13 VCC (power), 14 B OUT (out), 15 FAULT (in), 16 SOFT-REF (in)

## UC3868N
designator U?
Resonant-Mode Power Supply Controller with Voltage Control, 1 % Duty Cycle, 0 to +70 degC, 16-pin PDIP (N), Green (RoHS & no Sb/Br); PartNumber: UC3868N; Manufacturer: Texas Instruments; Duty Cycle(Max)(%): 1; Frequency(Max)(kHz): 450; Rating: Catalog; SubFamily: PWM Controller; Topology: Boost, Flyback, Forward; UVLO Thresholds On/Off(V): 8/7; DatasheetVersion: SLUS289B; PackageVersion: revE, Dec-2002; PackageReference: N16; PackageDescription: 16-Pin Plastic Dual-In-Line Package, Row Spacing 7.62 mm, Pitch 2.54 mm; Supplier 1: Digi-Key; Supplier Part Number 1: 296-11325-5-ND; Supplier 2: Newark; Supplier Part Number 2: 77C3408; Supplier 3: Mouser; Supplier Part Number 3: 595-UC3868N; Control Method: Voltage; Eco-Plan: Green (RoHS & no Sb/Br); Regulated Outputs(#): 1; Mounting Technology: Through Hole; Code_JEDEC: MS-001*; ComponentLink1Description: Datasheet; ComponentLink1URL: http://www.ti.com/general/docs/lit/getliterature.tsp?genericPartNumber=UC3868&fileType=pdf
footprint N16 (DIP, 16-Leads, Row Spacing 7.62mm, Pitch 2.54mm, Body 19.3x6.4mm)
pins: 1 5V (out), 2 NI (in), 3 INV (in), 4 E/A OUT (out), 5 SIG GND (power), 6 RANGE, 7 RMIN, 8 CVCO, 9 RC, 10 ZERO (in), 11 A OUT (out), 12 PWR GND (power), 13 VCC (power), 14 B OUT (out), 15 FAULT (in), 16 SOFT-REF (in)

## UC3868NG4
designator U?
Resonant-Mode Power Supply Controller with Voltage Control, 1 % Duty Cycle, 0 to +70 degC, 16-pin PDIP (N), Green (RoHS & no Sb/Br); PartNumber: UC3868NG4; Manufacturer: Texas Instruments; Duty Cycle(Max)(%): 1; Frequency(Max)(kHz): 450; Rating: Catalog; SubFamily: PWM Controller; Topology: Boost, Flyback, Forward; UVLO Thresholds On/Off(V): 8/7; DatasheetVersion: SLUS289B; PackageVersion: revE, Dec-2002; PackageReference: N16; PackageDescription: 16-Pin Plastic Dual-In-Line Package, Row Spacing 7.62 mm, Pitch 2.54 mm; Supplier 1: Digi-Key; Supplier Part Number 1: UC3868NG4-ND; Supplier 2: Newark; Supplier Part Number 2: 54K2350; Supplier 3: Mouser; Supplier Part Number 3: 595-UC3868NG4; Control Method: Voltage; Eco-Plan: Green (RoHS & no Sb/Br); Regulated Outputs(#): 1; Mounting Technology: Through Hole; Code_JEDEC: MS-001*; ComponentLink1Description: Datasheet; ComponentLink1URL: http://www.ti.com/general/docs/lit/getliterature.tsp?genericPartNumber=UC3868&fileType=pdf
footprint N16 (DIP, 16-Leads, Row Spacing 7.62mm, Pitch 2.54mm, Body 19.3x6.4mm)
pins: 1 5V (out), 2 NI (in), 3 INV (in), 4 E/A OUT (out), 5 SIG GND (power), 6 RANGE, 7 RMIN, 8 CVCO, 9 RC, 10 ZERO (in), 11 A OUT (out), 12 PWR GND (power), 13 VCC (power), 14 B OUT (out), 15 FAULT (in), 16 SOFT-REF (in)

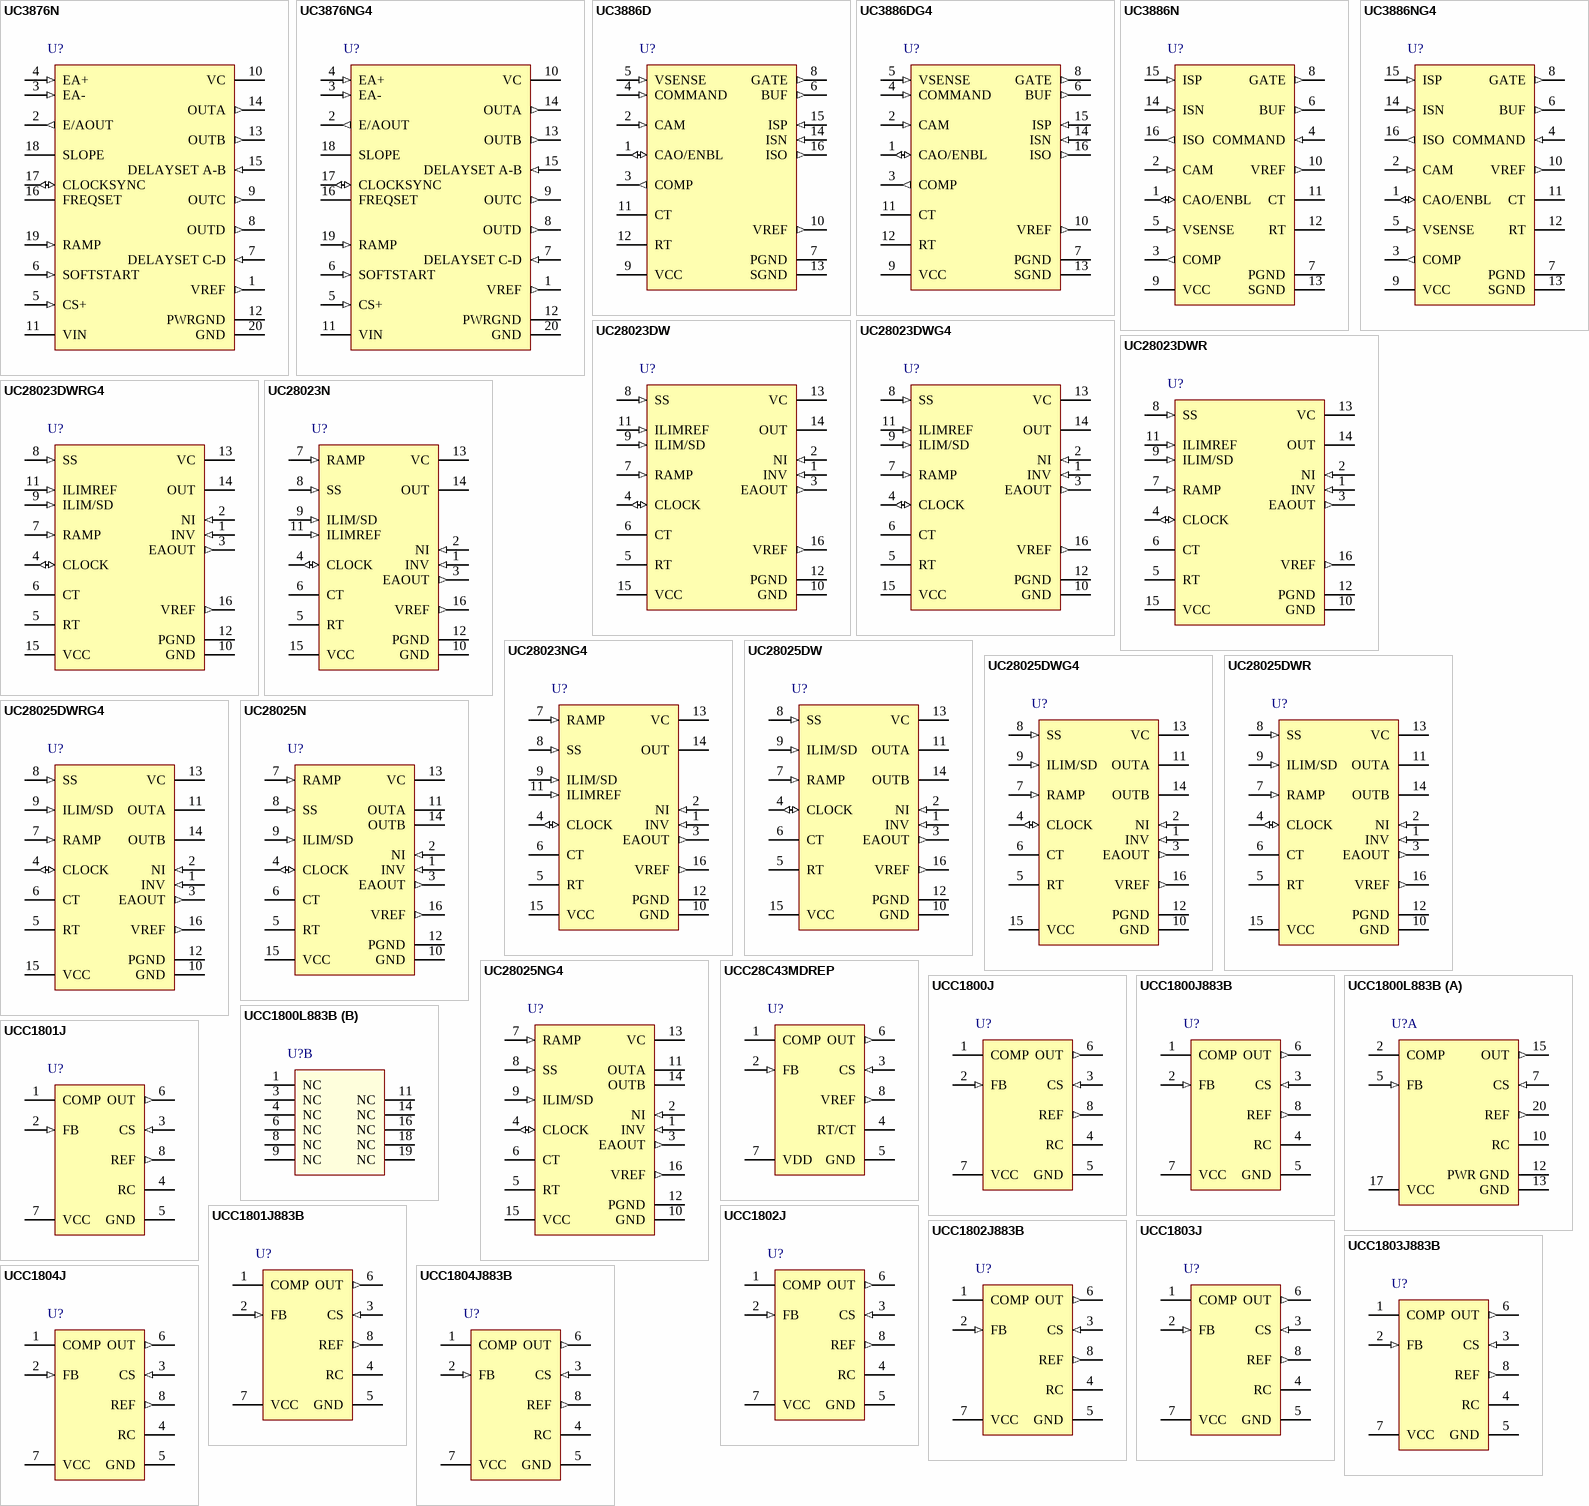
[diagram p36: symbols UC3876N to UCC1804J883B]

## UC3876N
designator U?
Phase Shift Resonant Controller with Current, Voltage Control, 100 % Duty Cycle, 0 to +70 degC, 20-pin PDIP (N), Green (RoHS & no Sb/Br); PartNumber: UC3876N; Manufacturer: Texas Instruments; Duty Cycle(Max)(%): 100; Frequency(Max)(kHz): 1000; Rating: Catalog; Regulated Outputs(#): 4; SubFamily: PWM Controller; Topology: Full-Bridge; UVLO Thresholds On/Off(V): 15.2/9.2; DatasheetVersion: SLUS229C; PackageVersion: revE, Dec-2002; PackageReference: N20; PackageDescription: 20-Pin Plastic Dual-In-Line Package, Row Spacing 7.62 mm, Pitch 2.54 mm; Supplier 1: Digi-Key; Supplier Part Number 1: 296-11333-5-ND; Supplier 2: Newark; Supplier Part Number 2: 78M6646; Supplier 3: Mouser; Supplier Part Number 3: 595-UC3876N; Control Method: Current, Voltage; Eco-Plan: Green (RoHS & no Sb/Br); Mounting Technology: Through Hole; Code_JEDEC: MS-001-AC*; ComponentLink1Description: Datasheet; ComponentLink1URL: http://www.ti.com/general/docs/lit/getliterature.tsp?genericPartNumber=UC3876&fileType=pdf
footprint N20 (DIP, 20-Leads, Row Spacing 7.62mm, Pitch 2.54mm, Body 25.4x6.4mm)
pins: 1 VREF (out) "This pin is an accurate 5V voltage reference.", 2 E/AOUT (out) "This is the gain stage for overall feedback control.", 3 EA- (in) "This is normally connected to the voltage divider resistors which sense the power supply output voltage level.", 4 EA+ (in) "This is normally connected to a reference voltage used for comparison with the sensed power supply output voltage level at the EA+ pin.", 5 CS+ (in) "The non-inverting input to the current-fault comparator whose reference is set internally to a fixed 2.5V.", 6 SOFTSTART (in) "SOFTSTART will remain at GND as long as VIN is below the UVLO threshold.", 7 DELAYSET C-D (in) "The user programmed current flowing from these pins to GND set the turn-on delay for the corresponding output pair.", 8 OUTD (out) "The outputs are 2A to-tem-pole drivers optimized for both MOSFET gates and level-shifting transformers.The C-D pair will drive the other half-bridge with switching phase shifted with respect to the A-B outputs.", 9 OUTC (out) "The outputs are 2A to-tem-pole drivers optimized for both MOSFET gates and level-shifting transformers.The C-D pair will drive the other half-bridge with switching phase shifted with respect to the A-B outputs.", 10 VC (power) "This pin supplies power to the output drivers and their associated bias circuitry.", 11 VIN (power) "This pin supplies power to the logic and analog circuitry on the integrated circuit that is not directly associated with driving the output stages.", 12 PWRGND (power) "VC should be bypassed with a ceramic capacitor from the VC pin to the section of the ground plane that is connected to PWRGND.", 13 OUTB (out) "The outputs are 2A to-tem-pole drivers optimized for both MOSFET gates and level-shifting transformers.The A-B pair is intended to drive one half-bridge in the external power stage and is syncronized with the clock waveform.", 14 OUTA (out) "The outputs are 2A to-tem-pole drivers optimized for both MOSFET gates and level-shifting transformers.The A-B pair is intended to drive one half-bridge in the external power stage and is syncronized with the clock waveform.", 15 DELAYSET A-B (in) "The user programmed current flowing from these pins to GND set the turn-on delay for the corresponding output pair.", 16 FREQSET "A resistor and a capacitor from FREQSET to GND will set the oscillator frequency.", 17 CLOCKSYNC (io) "Used as an output, this pin provides a clock signal.", 18 SLOPE "A resistor from this pin to VCC will set the current used to generate the ramp.", 19 RAMP (in) "This pin is the input to the PWM comparator.Connect a capacitor from here to GND.", 20 GND (power) "All voltages are mesured with respect to GND."

## UC3876NG4
designator U?
Phase Shift Resonant Controller with Current, Voltage Control, 100 % Duty Cycle, 0 to +70 degC, 20-pin PDIP (N), Green (RoHS & no Sb/Br); PartNumber: UC3876NG4; Manufacturer: Texas Instruments; Duty Cycle(Max)(%): 100; Frequency(Max)(kHz): 1000; Rating: Catalog; Regulated Outputs(#): 4; SubFamily: PWM Controller; Topology: Full-Bridge; UVLO Thresholds On/Off(V): 15.2/9.2; DatasheetVersion: SLUS229C; PackageVersion: revE, Dec-2002; PackageReference: N20; PackageDescription: 20-Pin Plastic Dual-In-Line Package, Row Spacing 7.62 mm, Pitch 2.54 mm; Supplier 1: Digi-Key; Supplier Part Number 1: UC3876NG4-ND; Supplier 2: Newark; Supplier Part Number 2: 99K4494; Supplier 3: Mouser; Supplier Part Number 3: 595-UC3876NG4; Control Method: Current,Voltage; Eco-Plan: Green (RoHS & no Sb/Br); Mounting Technology: Through Hole; Code_JEDEC: MS-001-AC*; ComponentLink1Description: Datasheet; ComponentLink1URL: http://www.ti.com/general/docs/lit/getliterature.tsp?genericPartNumber=UC3876&fileType=pdf
footprint N20 (DIP, 20-Leads, Row Spacing 7.62mm, Pitch 2.54mm, Body 25.4x6.4mm)
pins: 1 VREF (out) "This pin is an accurate 5V voltage reference.", 2 E/AOUT (out) "This is the gain stage for overall feedback control.", 3 EA- (in) "This is normally connected to the voltage divider resistors which sense the power supply output voltage level.", 4 EA+ (in) "This is normally connected to a reference voltage used for comparison with the sensed power supply output voltage level at the EA+ pin.", 5 CS+ (in) "The non-inverting input to the current-fault comparator whose reference is set internally to a fixed 2.5V.", 6 SOFTSTART (in) "SOFTSTART will remain at GND as long as VIN is below the UVLO threshold.", 7 DELAYSET C-D (in) "The user programmed current flowing from these pins to GND set the turn-on delay for the corresponding output pair.", 8 OUTD (out) "The outputs are 2A to-tem-pole drivers optimized for both MOSFET gates and level-shifting transformers.The C-D pair will drive the other half-bridge with switching phase shifted with respect to the A-B outputs.", 9 OUTC (out) "The outputs are 2A to-tem-pole drivers optimized for both MOSFET gates and level-shifting transformers.The C-D pair will drive the other half-bridge with switching phase shifted with respect to the A-B outputs.", 10 VC (power) "This pin supplies power to the output drivers and their associated bias circuitry.", 11 VIN (power) "This pin supplies power to the logic and analog circuitry on the integrated circuit that is not directly associated with driving the output stages.", 12 PWRGND (power) "VC should be bypassed with a ceramic capacitor from the VC pin to the section of the ground plane that is connected to PWRGND.", 13 OUTB (out) "The outputs are 2A to-tem-pole drivers optimized for both MOSFET gates and level-shifting transformers.The A-B pair is intended to drive one half-bridge in the external power stage and is syncronized with the clock waveform.", 14 OUTA (out) "The outputs are 2A to-tem-pole drivers optimized for both MOSFET gates and level-shifting transformers.The A-B pair is intended to drive one half-bridge in the external power stage and is syncronized with the clock waveform.", 15 DELAYSET A-B (in) "The user programmed current flowing from these pins to GND set the turn-on delay for the corresponding output pair.", 16 FREQSET "A resistor and a capacitor from FREQSET to GND will set the oscillator frequency.", 17 CLOCKSYNC (io) "Used as an output, this pin provides a clock signal.", 18 SLOPE "A resistor from this pin to VCC will set the current used to generate the ramp.", 19 RAMP (in) "This pin is the input to the PWM comparator.Connect a capacitor from here to GND.", 20 GND (power) "All voltages are mesured with respect to GND."

## UC3886D
designator U?
Average PWM Controller Ic with Current Control, 95 % Duty Cycle, 0 to +70 degC, 16-pin SOIC (D), Green (RoHS & no Sb/Br); PartNumber: UC3886D; Manufacturer: Texas Instruments; Duty Cycle(Max)(%): 95; Frequency(Max)(kHz): 400; Rating: Catalog; Regulated Outputs(#): 1; Topology: Boost, Buck, Flyback, Forward; DatasheetVersion: SLUS231; PackageVersion: revM, Jun-2011; PackageReference: D16; PackageDescription: 16-Pin Plastic Small Outline Integrated Circuit, 9.9 x 3.9 mm, Pitch 1.27 mm Pitch; Supplier 1: Digi-Key; Supplier Part Number 1: 296-11336-5-ND; Supplier 2: Newark; Supplier Part Number 2: 77C3448; Supplier 3: Mouser; Supplier Part Number 3: 595-UC3886D; Control Method: Current; Eco-Plan: Green (RoHS & no Sb/Br); SubFamily: PWM Controller; UVLO Thresholds On/Off(V): 10.3/10; Mounting Technology: Surface Mount; Code_JEDEC: MS-012AC; ComponentLink1Description: Datasheet; ComponentLink1URL: http://www.ti.com/general/docs/lit/getliterature.tsp?genericPartNumber=UC3886&fileType=pdf
footprint D16_N (SOIC, 16-Leads, Body 9.9x3.9mm, Pitch 1.27mm, IPC Medium Density)
footprint D16_L (SOIC, 16-Leads, Body 9.9x3.9mm, Pitch 1.27mm, IPC High Density)
footprint D16_M (SOIC, 16-Leads, Body 9.9x3.9mm, Pitch 1.27mm, IPC Low Density)
pins: 1 CAO/ENBL (io) "(Current Amplifier Output/Chip Enable) The current loop compensation network is connected between CAO/ENBL and CAM, the inverting input of the current amplifier. The voltage at CAO/ENBL is the input to the PWM comparator and (See Datasheet)", 2 CAM (in) "(Current Amplifier Minus Input) The average load current feedback from ISO is typically applied through a resistor here.", 3 COMP (out) "(Compensation, Voltage Amplifier Output) The system voltage compensation network is applied between COMP and VSENSE. The voltage at COMP is clamped to prevent it from going more than 1V above the COMMAND voltage. This is (See Datasheet)", 4 COMMAND (in) "(Voltage Amplifier Non-Inverting Input) This input to the voltage amplifier is connected to a command voltage, such as the output of a DAC. This voltage sets the switching regulator output voltage.", 5 VSENSE (in) "(Voltage Sense Input) This input is connected to COMP through a feedback network and to the power supply output through a resistor or a divider network.", 6 BUF (out) "(Buffer Output) The voltage on COMMAND pin is buffered and presented to the user here. This voltage is used to provide the operating bias point for the current sense amplifier by connecting a resistor between BUF and ISP. (See Datasheet)", 7 PGND (power) "(Power Ground) The PWM output current returns to ground through this pin. This is separated from SGND to avoid on-chip ground noise generated by the output current.", 8 GATE (out) "(PWM Output) The output is a 1A totem pole driver. Use a series resistor of at least 5 to prevent interaction between the gate impedance and the output driver that might cause excessive overshoot.", 9 VCC (power) "(Positive Supply Voltage) This pin supplies power to the chip and to the gate drive output. Decouple to PGND and separately to SGND for best noise immunity. The reference (VREF), GATE output, oscillator, and amplifiers are (See Datasheet)", 10 VREF (out) "(Voltage Reference Output) An accurate 5V reference as provided at this pin. The output can deliver 2mA to external circuitry, and is internally short circuit current limited.", 11 CT "(Oscillator Timing Capacitor) A capacitor from CT to SGND along with the resistor on RT.", 12 RT "(Oscillator Charging Current) This pin is held at 2V. Resistor RT from this pin to SGND sets the oscillator charging current. Use 5k < RT < 100k.", 13 SGND (power) "(Signal Ground) For better noise immunity, signal ground is provided at this pin.", 14 ISN (in) "(Current Sense Amplifier Inverting Input) A resistor to the low side of the average current sense resistor and a resistor to ISO are applied to this pin to make a differential sensing amplifier.", 15 ISP (in) "(Current Sense Amplifier Non-Inverting Input) A resistor to the high side of the average current sense resistor and a resistor to BUF are connected to this pin to make a differential sensing amplifier.", 16 ISO (out) "(Current Sense Amplifier Output) A feedback resistor to ISN is connected here to make a differential sensing amplifier.The voltage at this pin is equal to (VBUF + A . IAVG . RSENSE) where A is the user determined gain of the (See Datasheet)"